# Altium footprint library Lagenfenster_4Layer.PcbLib: 1 footprints
Each footprint in its own frame and in the unit in brackets; x right, y up, seen from the top. Pads: shape width x height; smd on the part's side, far side on the other; paste and mask are expansions set on the pad; w line width, h text height; cw(c..) or ccw(c..) is an arc to the next point about the centre after c.
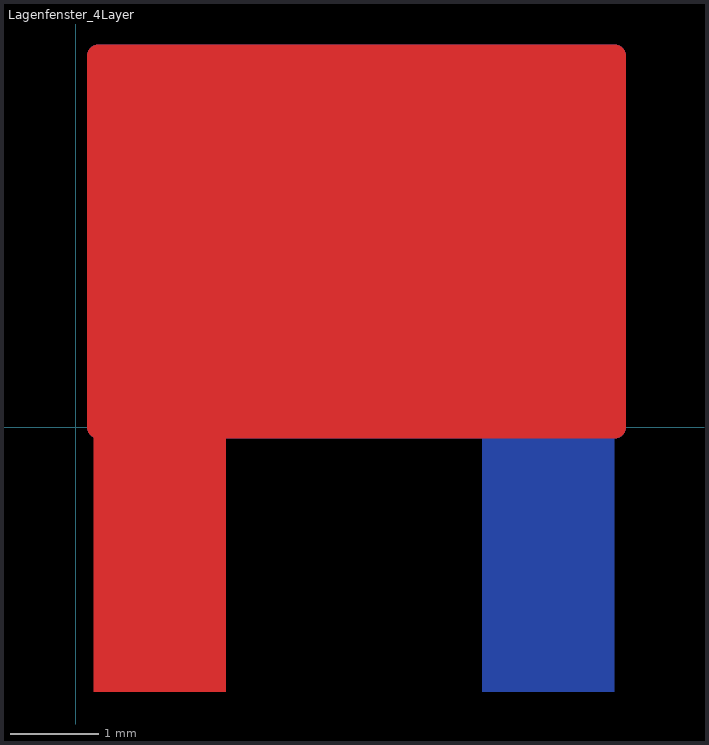
[diagram p0: the footprint, top view; thin cyan lines are the x and y axes]

## Lagenfenster_4Layer [mm]
Top Layer:
  rectangle: 0.2,-3 1.7,0
  pour cut-out: 0.254,4.2 6.096,4.2 6.096,0 0.254,0
  lines w0.254: 0.254,0 0.254,4.2 6.096,4.2 6.096,0 0.254,0
  text "L1" at 0.762,2.413 h1.2
Mid-Layer 1:
  rectangle: 1.675,-3 3.175,0
  text "L2" at 3.556,2.413 h1.2
Mid-Layer 2:
  rectangle: 3.175,-3 4.675,0
  pour cut-out: 0.254,4.2 6.096,4.2 6.096,0 0.254,0
  text "L3" at 2.794,0.635 h1.2
Mid-Layer 4:
  pour cut-out: 0.254,4.2 6.096,4.2 6.096,0 0.254,0
Bottom Layer:
  rectangle: 4.596,-3 6.096,0
  pour cut-out: 0.254,4.2 6.096,4.2 6.096,0 0.254,0
  lines w0.254: 0.254,0 0.254,4.2 6.096,4.2 6.096,0 0.254,0
  text "L4" at 5.588,0.635 h1.2